# Altium schematic symbol library kontr.SCHLIB: 247 symbols
Pins are listed as number, name and electrical type; pins without a type are passive.

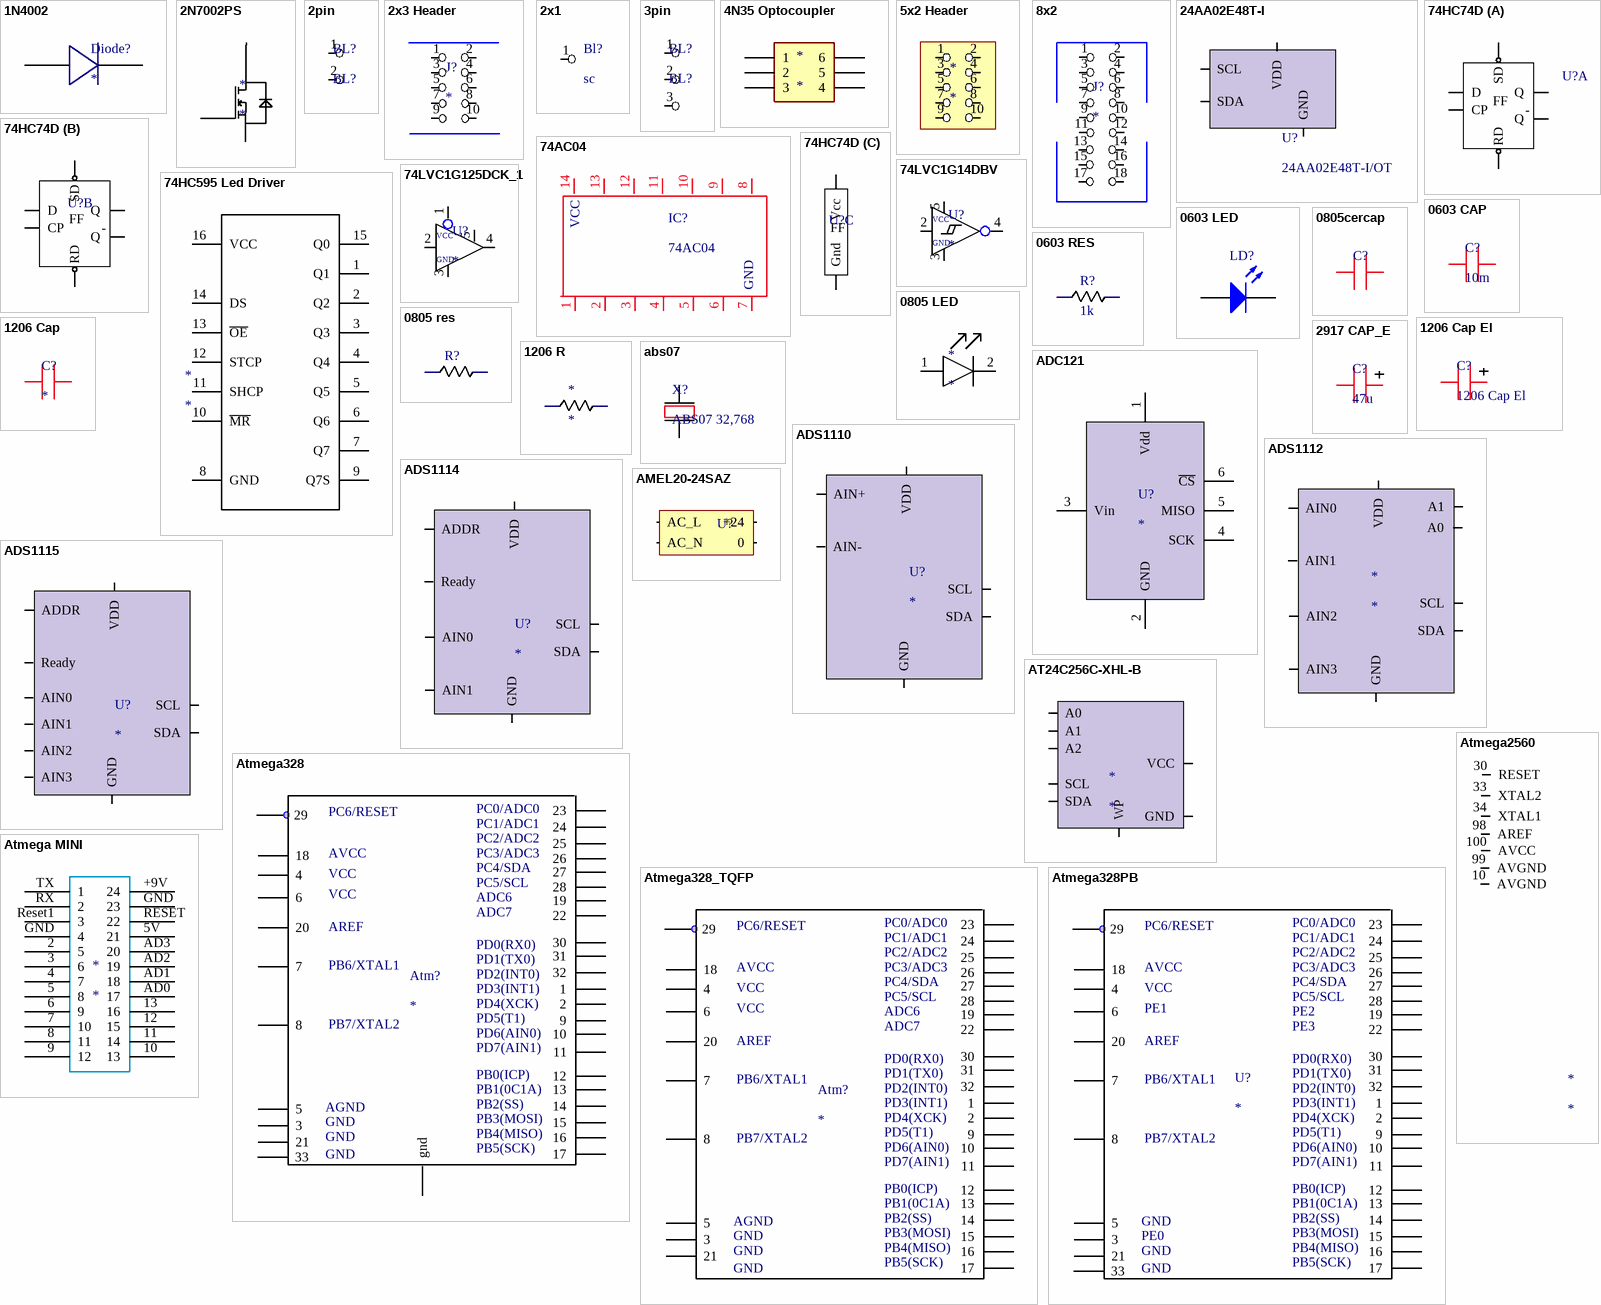
[diagram p0: symbols 1N4002 to Atmega MINI]

## 1N4002
designator Diode?
footprint 1N4002
footprint 0603 - duplicate
pins: 1, 2

## 2N7002PS
designator *
pins: D, G, S

## 2pin
designator BL?, comment BL?
footprint 2pin
pins: 1, 2

## 2x3 Header
designator J?
footprint 5x2
pins: 1, 2, 3, 4, 5, 6, 7, 8, 9, 10

## 2х1
designator Bl?, comment sc
footprint 2x1
pins: 1

## 3pin
designator BL?, comment BL?
footprint 3pin127
pins: 1, 2, 3

## 4N35 Optocoupler
designator *
footprint 4n35 Optocoupler
pins: 1, 2, 3, 4, 5, 6

## 5x2 Header
designator *
footprint 5x2
pins: 1, 2, 3, 4, 5, 6, 7 1, 8 2, 9 3, 10 4

## 8x2
designator J?
8x2
footprint 8x2
pins: 1, 2, 3, 4, 5, 6, 7 1, 8 2, 9 3, 10 4, 11 5, 12 6, 13 3, 14 4, 15 5, 16 6, 17 5, 18 6

## 24AA02E48T-I
designator U?, comment 24AA02E48T-I/OT
footprint SOT23 - 5 lead
pins: 1 SCL, 2 GND, 3 SDA, 4 VDD

## 74AC04
designator IC?
footprint DIP 14
pins: 1, 2, 3, 4 1, 5 2, 6 3, 7 2, 8 1, 9 1, 10 2, 11 3, 12 1, 13 2, 14 3
text: VCC; GND

## 74HC74D
designator U?  (value not drawn)
footprint SOIC 14 lead
part A pins: 1 RD, 2 D, 3 CP, 4 SD, 5 Q, 6 Q
part B pins: 8 Q, 9 Q, 10 SD, 11 CP, 12 D, 13 RD
part C pins: 7 Gnd, 14 Vcc
part A text: FF; -
part B text: FF; -
part C text: FF

## 74HC595 Led Driver
designator *
footprint 74HC595 Led Driver
pins: 1 Q1, 2 Q2, 3 Q3, 4 Q4, 5 Q5, 6 Q6, 7 Q7, 8 GND, 9 Q7S, 10 ~{MR}, 11 SHCP, 12 STCP, 13 ~{OE}, 14 DS, 15 Q0, 16 VCC

## 74LVC1G14DBV
designator U?
footprint 74LVC1G125DCK
pins: 2 7, 3 7, 4 7, 5 7
text: VCC; GND

## 74LVC1G125DCK_1
designator U?
footprint 74LVC1G125DCK
pins: 1 7, 2 7, 3 7, 4 7, 5 7
text: VCC; GND

## 0603 CAP
designator C?, comment 10m
footprint 0603
pins: 1, 2

## 0603 LED
designator LD?  (value not drawn)
Typical INFRARED GaAs LED; Published: 8-Jun-2000; LatestRevisionDate: 08-Jul-2005; LatestRevisionNote: Mech Layer 1 removed.; PackageReference: LED-0; Publisher: Altium Limited; PackageDescription: LED; 2 Leads
footprint 0603
pins: 1 A, 2 K

## 0603 RES
designator R?, comment 1k
footprint 0603
pins: 1, 2

## 0805 LED
designator *
footprint RES0805 (Chip Resistor, 2-Leads, Body 2,00x1,25mm, IPC Medium Density)
pins: 1, 2

## 0805 res
designator R?, comment Res0804  (value not drawn)
0805 SMD Resistor
footprint RES0805 (Chip Resistor, 2-Leads, Body 2,00x1,25mm, IPC Medium Density)
pins: 1, 2

## 0805cercap
designator C?  (value not drawn)
footprint capasitor 0805
pins: 1, 2

## 1206 Cap
designator C?
footprint 1206
pins: 1, 2

## 1206 Cap El
designator C?
TAJA156K010RNJ
footprint CAP_D_Code
pins: 0, 1

## 1206 R
designator *
footprint 1206
pins: 1, 2

## 2917 CAP_E
designator C?, comment 47u
footprint CAP_E_Code
footprint cap-C-code
pins: 0, 1

## abs07
designator X?, comment ABS07 32,768
XTAL 32,768
footprint ABS07
pins: 1, 2

## ADC121
designator U?
ADC121S021
pins: 1 Vdd, 2 GND, 3 Vin, 4 SCK, 5 MISO, 6 ~{CS}

## ADS1110
designator U?
ADS1110
footprint SOT23 - 6
pins: 1 AIN+, 2 GND, 3 SCL, 4 SDA, 5 VDD, 6 AIN-

## ADS1112
designator *
footprint MSOP-10
pins: 1 AIN0, 2 AIN1, 3 GND, 4 AIN2, 5 AIN3, 6 VDD, 7 SDA, 8 SCL, 9 A0, 10 A1

## ADS1114
designator U?
ADS1114BQDGSRQ1
footprint VSSOP-10
pins: 1 ADDR, 2 Ready, 3 GND, 4 AIN0, 5 AIN1, 8 VDD, 9 SDA, 10 SCL

## ADS1115
designator U?
ADS1115IDGSR
footprint VSSOP-10
pins: 1 ADDR, 2 Ready, 3 GND, 4 AIN0, 5 AIN1, 6 AIN2, 7 AIN3, 8 VDD, 9 SDA, 10 SCL

## AMEL20-24SAZ
designator U?  (value not drawn)
footprint AMEL20-24SAZ
pins: 1 AC_L, 2 AC_N, 3 +24, 4 0

## AT24C256C-XHL-B
designator *
footprint TSSOP-8 (Shrink Small Outline, Plastic, Thin; 14 Leads; Body Width 4.4 mm; Pitch 0.65 mm)
pins: 1 A0, 2 A1, 3 A2, 4 GND, 5 SDA, 6 SCL, 7 WP, 8 VCC

## Atmega328
designator Atm?
footprint Atmega168
pins: 1, 2, 3, 4, 5, 6, 7, 8, 9, 10, 11, 12, 13, 14, 15, 16, 17, 18, 19, 20, 21, 22, 23, 24, 25, 26, 27, 28, 29, 30, 31, 32, 33, 33 gnd
text: PC6/RESET; PC0/ADC0; PC1/ADC1; PC2/ADC2; AVCC; PC3/ADC3; VCC; PC4/SDA; PC5/SCL; ADC6; ADC7; AREF; PD0(RX0); PD1(TX0); PB6/XTAL1; PD2(INT0); PD3(INT1); PD4(XCK); PD5(T1); PB7/XTAL2; PD6(AIN0); PD7(AIN1); PB0(ICP); PB1(0C1A); PB2(SS); AGND; PB3(MOSI); GND; PB4(MISO); PB5(SCK)

## Atmega328_TQFP
designator Atm?
footprint TQFP
pins: 1, 2, 3, 4, 5, 6, 7, 8, 9, 10, 11, 12, 13, 14, 15, 16, 17, 18, 19, 20, 21, 22, 23, 24, 25, 26, 27, 28, 29, 30, 31, 32
text: PC6/RESET; PC0/ADC0; PC1/ADC1; PC2/ADC2; AVCC; PC3/ADC3; VCC; PC4/SDA; PC5/SCL; ADC6; ADC7; AREF; PD0(RX0); PD1(TX0); PB6/XTAL1; PD2(INT0); PD3(INT1); PD4(XCK); PD5(T1); PB7/XTAL2; PD6(AIN0); PD7(AIN1); PB0(ICP); PB1(0C1A); PB2(SS); AGND; PB3(MOSI); GND; PB4(MISO); PB5(SCK)

## Atmega328PB
designator U?
ATMEGA328PB-MU
footprint QFN32
pins: 1, 2, 3, 4, 5, 6, 7, 8, 9, 10, 11, 12, 13, 14, 15, 16, 17, 18, 19, 20, 21, 22, 23, 24, 25, 26, 27, 28, 29, 30, 31, 32, 33
text: PC0/ADC0; PC6/RESET; PC1/ADC1; PC2/ADC2; AVCC; PC3/ADC3; PC4/SDA; VCC; PC5/SCL; PE1; PE2; PE3; AREF; PD0(RX0); PD1(TX0); PB6/XTAL1; PD2(INT0); PD3(INT1); PD4(XCK); PD5(T1); PB7/XTAL2; PD6(AIN0); PD7(AIN1); PB0(ICP); PB1(0C1A); GND; PB2(SS); PE0; PB3(MOSI); PB4(MISO); PB5(SCK)

## Atmega2560
designator *
pins: 10 AVGND, 30 RESET, 33 XTAL2, 34 XTAL1, 98 AREF, 99 AVGND, 100 AVCC

## Atmega MINI
designator *
footprint Atmega MINI
pins: 2 5, 3 6, 4 7, 5 8, 5V 21, 6 9, 7 10, 8 11, 9 12, 10 13, 11 14, 12 15, 13 16, +9V 24, AD0 17, AD1 18, AD2 19, AD3 20, GND 4, GND 23, RESET 22, Reset1 3, RX 2, TX 1

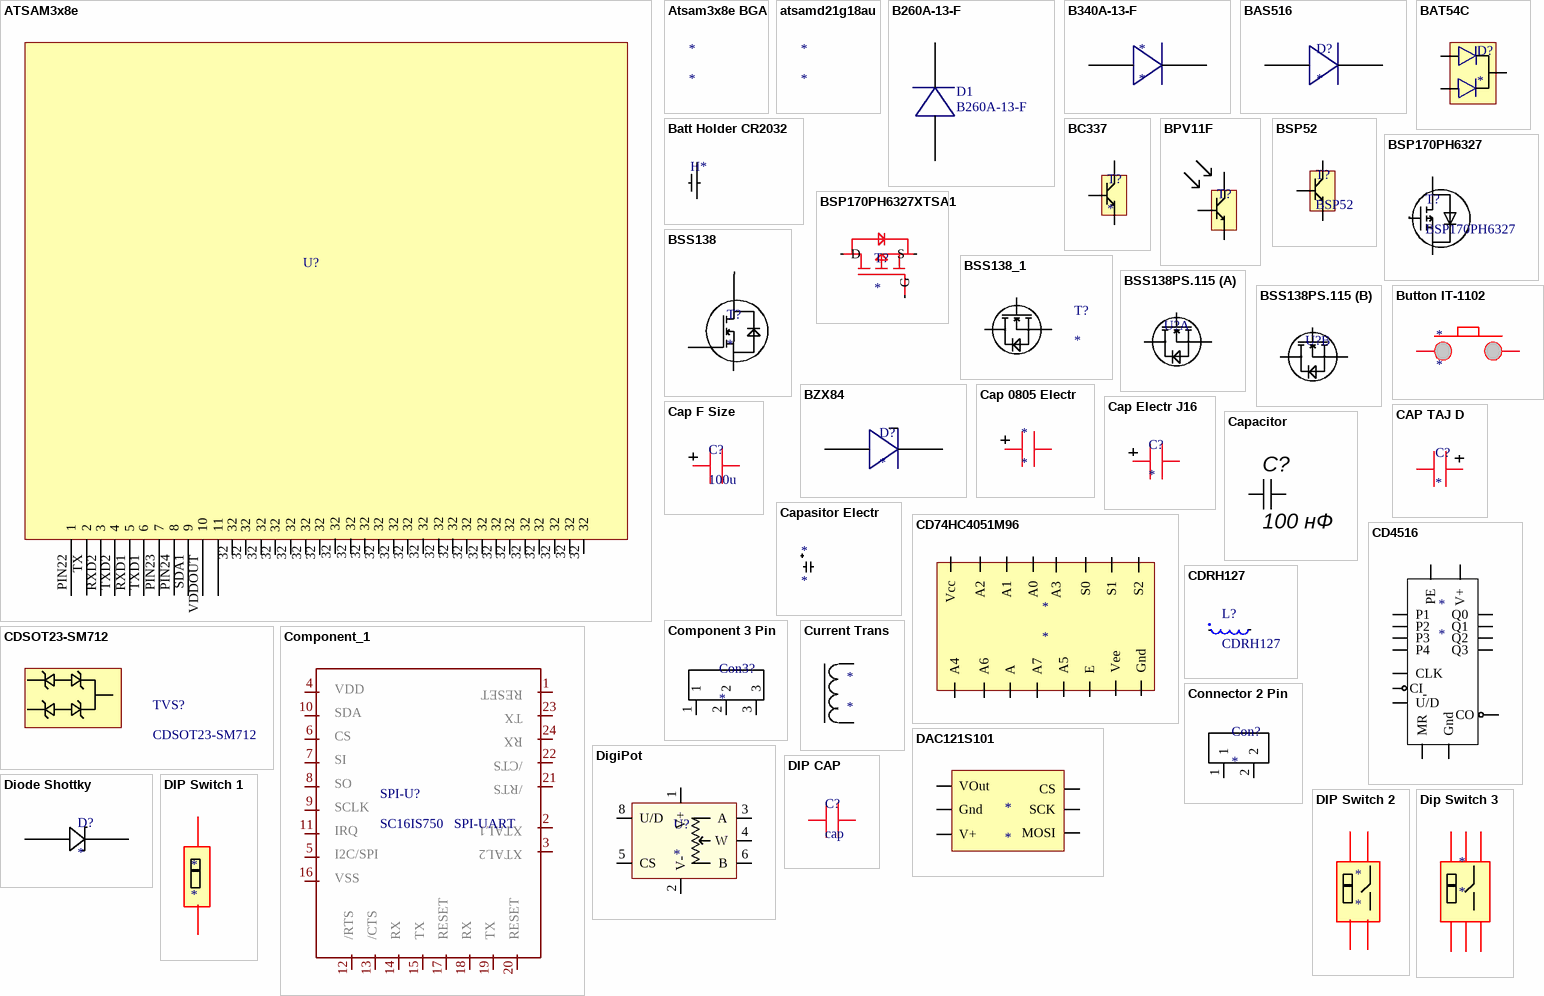
[diagram p1: symbols ATSAM3x8e to Dip Switch 3]

## ATSAM3x8e
designator U?  (value not drawn)
footprint LQFP 144
pins: 32 11, 32, 32, 32, 32, 32, 32, 32, 32, 32, 32, 32, 32, 32, 32, 32, 32, 32, 32, 32, 32, 32, 32, 32, 32, 32, PIN22 1, PIN23 7, PIN24 8, RXD1 5, RXD2 3, SDA1 9, TX 2, TXD1 6, TXD2 4, VDDOUT 10

## Atsam3x8e BGA
designator *

## atsamd21g18au
designator *

## B260A-13-F
designator D1
footprint DO-214Pol
pins: 1, 2

## B340A-13-F
designator *
footprint B340A-13-F
pins: 1 A, 2 C

## BAS516
designator D?
footprint SOD523
pins: 1, 2

## BAT54C
designator D?
footprint SOT23
pins: 1, 2, 3 2

## Batt Holder CR2032
designator H*  (value not drawn)
footprint Batt Holder CR2032
pins: 0 5, 1 6

## BC337
designator T?
footprint TO226
pins: 1, 2, 3

## BPV11F
designator T?  (value not drawn)
footprint TransistorPh
pins: 1, 2, 3

## BSP52
designator T?
footprint SOT223
pins: 1, 2, 3

## BSP170PH6327
designator T?
footprint SOT223
pins: 1, 2, 3

## BSP170PH6327XTSA1
designator T?
footprint MOSFET SOT223
pins: 1 G, 2 D, 3 S

## BSS138
designator T?
BSS138W
footprint SOT23
pins: 1 G, 2 S, 3 D

## BSS138_1
designator T?
BSS138W
footprint SOT23
pins: 1 G, 2 S, 3 D

## BSS138PS.115
designator U?  (value not drawn)
footprint TSSOP 6
part A pins: 1 S1, 2 G1, 6 D1
part B pins: 3 D2, 4 S2, 5 G2

## Button IT-1102
designator *
footprint Button IT-1102W
pins: 0, 1

## BZX84
designator D?
BZX84
footprint Sot23-3
pins: 1, 3

## Cap 0805 Electr
designator *
footprint capasitor 0805
pins: 1, 2

## Cap Electr J16
designator C?
EEEFK1J471AM
footprint Cap J16
pins: 1, 2

## Cap F Size
designator C?, comment 100u
EEEFK1H101P
footprint Cap F size
pins: 1, 2

## CAP TAJ D
designator C?
footprint AVX_D
pins: 1, 2

## Capacitor
designator C?, comment 100 нФ
100n; Type: Конденсатор ЧИП; Name: 0805; Power/Voltage: 50В; Tolerance: 10%; Value: 100 нФ
footprint C_0805
pins: 1, 2

## Capasitor Electr
designator *
footprint Cap 8x10
pins: 1, 2

## CD74HC4051M96
designator *
footprint SOIC 16
pins: 1 A4, 2 A6, 3 A, 4 A7, 5 A5, 6 E, 7 Vee, 8 Gnd, 9 S2, 10 S1, 11 S0, 12 A3, 13 A0, 14 A1, 15 A2, 16 Vcc

## CD4516
designator *
footprint TSSOP-16 (Shrink Small Outline, Plastic, Thin; 14 Leads; Body Width 4.4 mm; Pitch 0.65 mm)
pins: 1 PE, 2 Q3, 3 P4, 4 P1, 4 Q2, 5 CI, 6 Q0, 7 CO, 8 Gnd, 9 MR, 10 U/D, 11 Q1, 12 P2, 13 P3, 15 CLK, 16 V+
text: -

## CDRH127
designator L?
footprint CDRH127/LDNP-270MC,
pins: 1, 2

## CDSOT23-SM712
designator TVS?
footprint SOT23
pins: 1, 2, 3

## Component 3 Pin
designator Con3?
footprint Connector 3 Pin
pins: 1, 2, 3

## Component_1
designator SPI-U?, comment SC16IS750   SPI-UART
footprint SC16IS750   SPI-UART
pins: 1, 2, 3, 4, 5 4, 6 4, 7 4, 8 4, 9 4, 10 4, 11 4, 12 4, 13 23, 14 4, 15 23, 16 4, 17 1, 18 4, 19 23, 20 1, 21 4, 22 23, 23, 24 4
text: RESET; VDD; TX; SDA; RX; CS; /CTS; SI; /RTS; SO; SCLK; XTAL1; IRQ; XTAL2; I2C/SPI; VSS

## Connector 2 Pin
designator Con?
footprint Connector 2Pin
pins: 1, 2

## Current Trans
designator *
pins: 1, 2

## DAC121S101
designator *
footprint SOT23 - 6
pins: 1 VOut, 2 Gnd, 3 V+, 4 MOSI, 5 SCK, 6 CS

## DigiPot
designator U?
MCP4011-103E/MS
footprint MSOP-8
pins: 1 V+, 2 V-, 3 A, 4 W, 5 CS (io), 6 B, 8 U/D (io)

## Diode Shottky
designator D?
pins: 1, 2

## DIP CAP
designator C?, comment cap
footprint DIP Cap 4mm
pins: 1, 2

## DIP Switch 1
designator *
footprint Dip Switch 1
pins: 1, 2 11

## DIP Switch 2
designator *
footprint Dip Switch 2
pins: 1, 2 3, 3 9, 4 11

## Dip Switch 3
designator *
footprint Dip Switch 3
pins: 1, 2 3, 3 5, 14 7, 15 9, 16 11

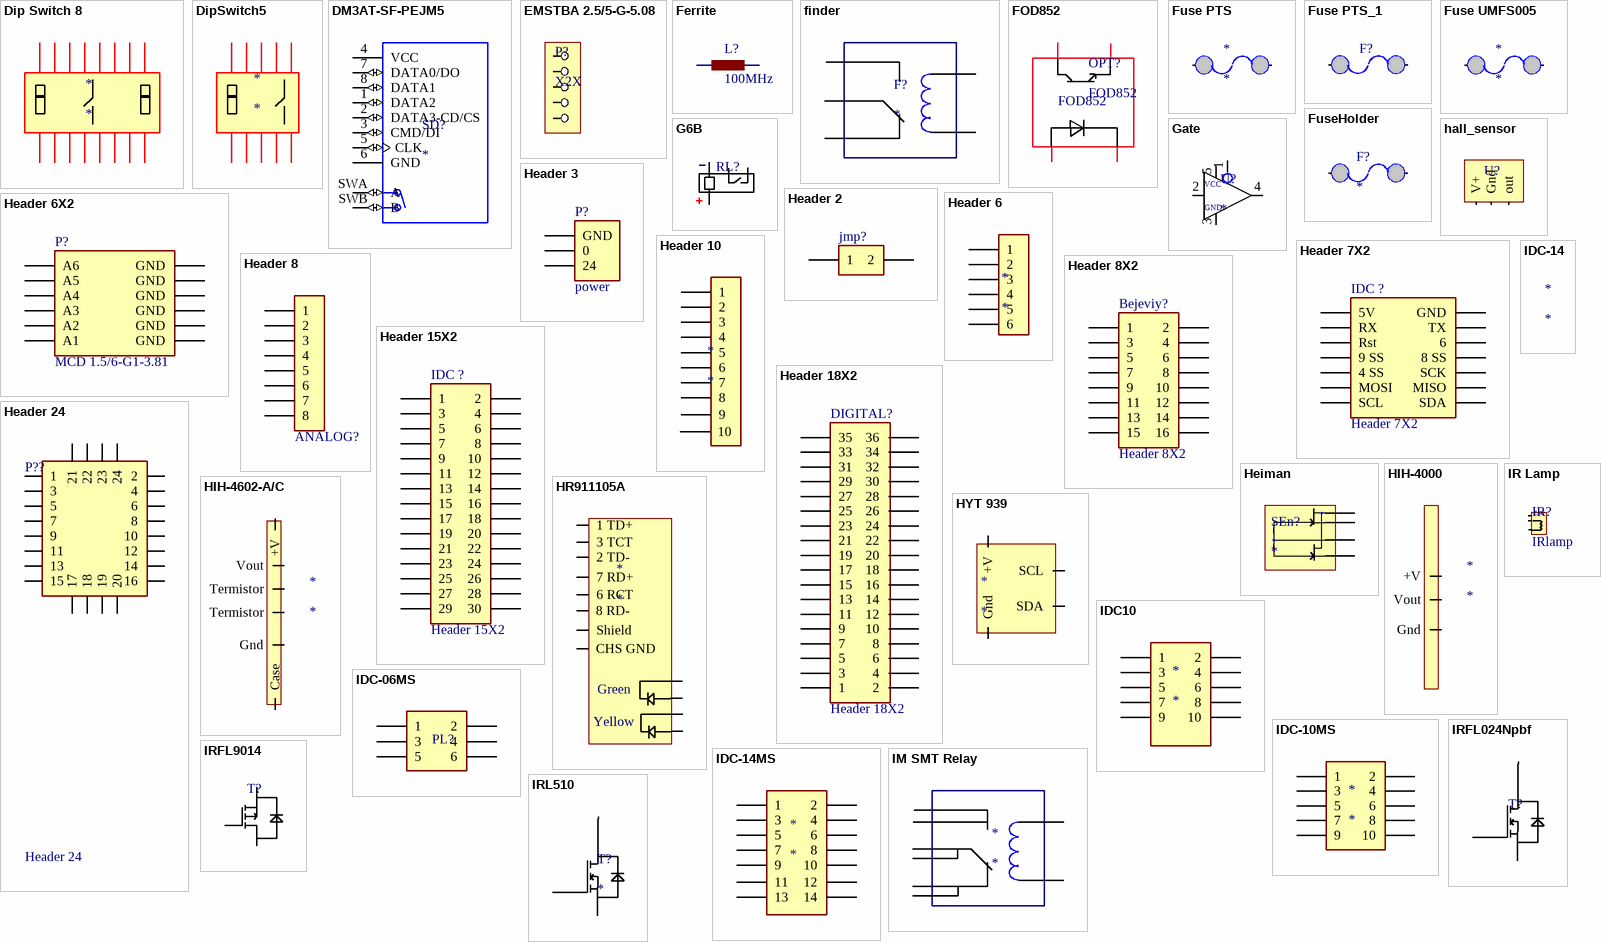
[diagram p2: symbols Dip Switch 8 to IRL510]

## Dip Switch 8
designator *
footprint Dip Switch 8
pins: 1, 2 3, 3 5, 4 7, 5 9, 6 11, 7 13, 8 15, 9, 10 14, 11 12, 12 10, 13 8, 14 6, 15 4, 16 2

## DipSwitch5
designator *
footprint DipSwitch 5
pins: 1, 2 3, 3 5, 4 7, 5 9, 12 10, 13 8, 14 6, 15 4, 16 2

## DM3AT-SF-PEJM5
designator SD?
footprint DM3AT-SF-PEJM5
pins: 1 DATA2 (io), 2 DATA3-CD/CS (io), 3 CMD/DI (io), 4 VCC (power), 5 CLK (io), 6 GND (power), 7 DATA0/DO (io), 8 DATA1 (io), SWA A (io), SWB B (io)

## EMSTBA 2.5/5-G-5.08
designator P?, comment X2X
X2X Plug
footprint PhClass5
pins: 1, 2, 3, 4 2, 5 3

## Ferrite
designator L?, comment 100MHz
footprint 0805
pins: 1, 2

## finder
designator F?
footprint 413190240010 (Finder)
pins: 11, 12, 14 1, A1, A2

## FOD852
designator OPT?
OptoDarlington
footprint FOD852S
pins: 1 -, 2 +, 3 Out B, 4 Out A

## Fuse PTS
designator *
pins: 1, 2

## Fuse PTS_1
designator F?, comment MF-NSMF012-2  (value not drawn)
footprint 1206
pins: 1, 2

## Fuse UMFS005
designator *
footprint Fuse USMF005
pins: 0, 1

## FuseHolder
designator F?
05200101Z
footprint FuseHolder
pins: 1, 2

## G6B
designator RL?  (value not drawn)
G6B-1114P-US-DC24
footprint G6B
pins: 1 -, 3 1, 4 1, 6 1

## Gate
designator U?
footprint 74LVC1G125DCK
pins: 1 7, 2 7, 3 7, 4 7, 5 7
text: VCC; GND

## hall_sensor
designator U?
hall_sensor
footprint PG-SSO-3-2
pins: 1 V+, 2 Gnd, 3 out

## Header 2
designator jmp?  (value not drawn)
Header, 2-Pin; LatestRevisionDate: 17-Jul-2002; LatestRevisionNote: Re-released for DXP Platform.; Publisher: Altium Limited
footprint HDR1X2 (Connector; Header; 2 Position)
signal-integrity model Connector
pins: 1, 2

## Header 3
designator P?, comment power
Header, 3-Pin; LatestRevisionDate: 17-Jul-2002; LatestRevisionNote: Re-released for DXP Platform.; Publisher: Altium Limited
footprint power
pins: 1 GND, 2 0, 3 24

## Header 6
designator *
footprint Header 6x1
pins: 1, 2, 3, 4, 5, 6

## Header 6X2
designator P?, comment MCD 1.5/6-G1-3.81
Header, 6-Pin, Dual row; LatestRevisionDate: 17-Jul-2002; LatestRevisionNote: Re-released for DXP Platform.; Publisher: Altium Limited
footprint mcd 1,5/6-G1-3.81
pins: 1 A6, 2 GND, 3 A5, 4 GND, 5 A4, 6 GND, 7 A3, 8 GND, 9 A2, 10 GND, 11 A1, 12 GND

## Header 7X2
designator IDC ?
Header, 7-Pin, Dual row; LatestRevisionDate: 17-Jul-2002; LatestRevisionNote: Re-released for DXP Platform.; Publisher: Altium Limited
footprint idc 14
pins: 1 5V, 2 GND, 3 RX, 4 TX, 5 Rst, 6, 7 9 SS, 8 8 SS, 9 4 SS, 10 SCK, 11 MOSI, 12 MISO, 13 SCL, 14 SDA

## Header 8
designator ANALOG?  (value not drawn)
Header, 8-Pin; LatestRevisionDate: 17-Jul-2002; LatestRevisionNote: Re-released for DXP Platform.; Publisher: Altium Limited
footprint ds1021
pins: 1, 2, 3, 4, 5, 6, 7, 8

## Header 8X2
designator Bejeviy?
Header, 8-Pin, Dual row; LatestRevisionDate: 17-Jul-2002; LatestRevisionNote: Re-released for DXP Platform.; Publisher: Altium Limited
footprint Bejev 2.54
pins: 1, 2, 3, 4, 5, 6, 7, 8, 9, 10, 11, 12, 13, 14, 15, 16

## Header 10
designator *
footprint Header 10
pins: 1, 2, 3, 4, 5, 6, 7, 8, 9, 10

## Header 15X2
designator IDC ?
Header, 15-Pin, Dual row; LatestRevisionDate: 17-Jul-2002; LatestRevisionNote: Re-released for DXP Platform.; Publisher: Altium Limited
footprint idc 30
pins: 1, 2, 3, 4, 5, 6, 7, 8, 9, 10, 11, 12, 13, 14, 15, 16, 17, 18, 19, 20, 21, 22, 23, 24, 25, 26, 27, 28, 29, 30

## Header 18X2
designator DIGITAL?
Header, 18-Pin, Dual row; LatestRevisionDate: 17-Jul-2002; LatestRevisionNote: Re-released for DXP Platform.; Publisher: Altium Limited
footprint ds1021 36pad
pins: 1, 2, 3, 4, 5, 6, 7, 8, 9, 10, 11, 12, 13, 14, 15, 16, 17, 18, 19, 20, 21, 22, 23, 24, 25, 26, 27, 28, 29, 30, 31, 32, 33, 34, 35, 36

## Header 24
designator P??
Header, 24-Pin; LatestRevisionDate: 17-Jul-2002; LatestRevisionNote: Re-released for DXP Platform.; Publisher: Altium Limited
footprint 3x8
pins: 1, 2, 3, 4, 5, 6, 7, 8, 9, 10, 11, 12, 13, 14, 15, 16, 17, 18, 19, 20, 21, 22, 23, 24

## Heiman
designator SEn?
footprint Heiman
pins: 1, 2, 3, 4

## HIH-4000
designator *
footprint TO18
pins: 1 Gnd, 2 Vout, 3 +V

## HIH-4602-A/C
designator *
footprint HIH-4602-A/C
pins: 1 Case, 2 Vout, 3 Gnd, 4 +V, 5 Termistor, 6 Termistor

## HR911105A
designator *
footprint HR911105A
pins: 1 1 TD+, 2 2 TD-, 3 3 TCT, 6 6 RCT, 7 7 RD+, 8 8 RD-, 9 LDGr, 10 LDGr, 11 LDYE, 12 LDYE, SHIELD CHS GND, SHIELD Shield
text: Green; Yellow

## HYT 939
designator *
footprint TO39
pins: 1 SCL, 2 +V, 3 Gnd, 4 SDA

## IDC10
designator *
footprint IDC10
pins: 1, 2, 3, 4, 5, 6, 7, 8, 9, 10

## IDC-06MS
designator PL?  (value not drawn)
footprint IDC-06MS
pins: 1, 2, 3, 4, 5, 6

## IDC-10MS
designator *
footprint IDC-10MS
pins: 1, 2, 3, 4, 5, 6, 7, 8, 9, 10

## IDC-14
designator *

## IDC-14MS
designator *
footprint IDC-14 PCB
pins: 1, 2, 3, 4, 5, 6, 7, 8, 9, 10, 11, 12, 13, 14

## IM SMT Relay
designator *
footprint IM SMT Relay
pins: 1, 2, 3, 4, 5, 6, 7, 8

## IR Lamp
designator IR?, comment IRlamp
footprint TO-8-3
pins: 1, 2, 3
text: Encl

## IRFL024Npbf
designator T?  (value not drawn)
footprint SOT223
pins: 1 G, 2 D, 3 S

## IRFL9014
designator T?  (value not drawn)
footprint SOT223
pins: 1 G, 2 D, 3 S

## IRL510
designator T?
footprint TO220
pins: 1 G, 2 D, 3 S

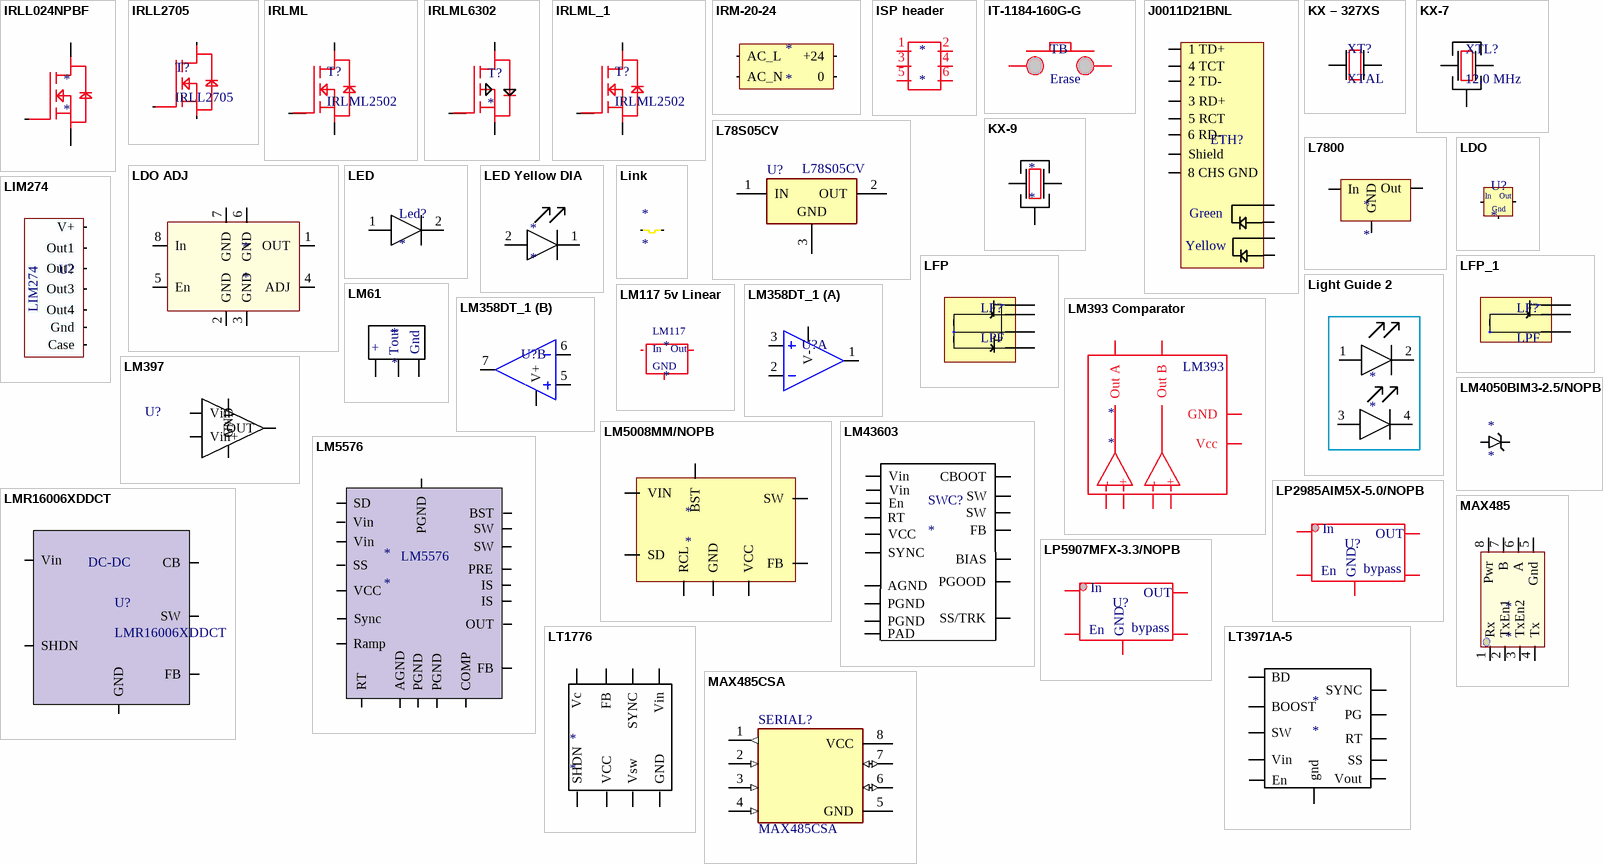
[diagram p3: symbols IRLL024NPBF to MAX485CSA]

## IRLL024NPBF
designator *
footprint SOT223
pins: 1, 2, 3

## IRLL2705
designator T?
footprint SOT223
pins: 1 G, 2 D, 3 S

## IRLML
designator T?, comment IRLML2502
footprint SOT23
pins: 1, 2, 3

## IRLML6302
designator T?
IRLML6302
footprint SOT23
pins: 1, 2, 3

## IRLML_1
designator T?, comment IRLML2502
footprint SOT23
pins: 1, 2, 3

## IRM-20-24
designator *
footprint IRM20-24
pins: 0VGnd 0, +V24 +24, AC_L, AC_N

## ISP header
designator *
footprint ISP Header
pins: 1, 2 6, 3, 4, 5, 6

## IT-1184-160G-G
designator TB, comment Erase
IT-1184-160G-G
footprint IT-1184-160G-g
pins: 1, 2

## J0011D21BNL
designator ETH?, comment ETH?  (value not drawn)
footprint RJ45
pins: 1 1 TD+, 2 2 TD-, 3 3 RD+, 4 4 TCT, 5 5 RCT, 6 6 RD-, 8 8 CHS GND, 9 LDGr, 10 LDGr, 11 LDYE, 12 LDYE, SHIELD Shield
text: Green; Yellow

## KX – 327XS
designator XT?, comment XTAL
KX – 327XS
footprint KX – 327
pins: 1 5, 2 5

## KX-7
designator XTL?, comment 12.0 MHz
Geyer KX-7 12.0 MHz
footprint KX-7 XTAL
pins: 1 5, 2, 3 5

## KX-9
designator *
footprint KX-9
pins: 1 5, 3 5, g 5

## L78S05CV
designator U?
2A Positive Voltage Regulator; Note: Tab is connected to pin 3 (GND).; Published: 24-Aug-2001; LatestRevisionDate: 17-Jul-2002; LatestRevisionNote: Re-released for DXP Platform.; DatasheetVersion: Jan-1993; PackageVersion: Apr-1998; PackageReference: TO220VW; Publisher: Altium Limited; PackageDescription: TO, Thru-Hole, Vertical, Heatsink Mounted; 3 In-Line Leads; Pitch 2.54 mm; Pin sequence 1, 3, 2; ComponentLink1Description: Manufacturer Link; ComponentLink1URL: http://www.st.com/; ComponentLink2Description: Datasheet; ComponentLink2URL: http://www.st.com/stonline/products/literature/ds/2148/l78s10c.pdf
footprint TO220V (TO, Thru-Hole, Vertical, Heatsink Mounted; 3 In-Line Leads; Pitch 2.54 mm; Pin sequence 1, 3, 2)
pins: 1 IN (power), 2 OUT (power), 3 GND (power)

## L7800
designator *
footprint D2Pack
pins: 0 GND, 1 In, 2 Out

## LDO
designator U?
footprint SOT223
pins: 1 GND, 2 OUT, 3 IN
text: In; Out; Gnd

## LDO ADJ
designator *
footprint SOIC 8
pins: 1 OUT, 2 GND, 3 GND, 4 ADJ, 5 En, 6 GND, 7 GND, 8 In

## LED
designator Led?
footprint LED
pins: 1, 2

## LED Yellow DIA
designator *
footprint Led Yellow DIA
pins: 1, 2

## LFP
designator LF?, comment LPF
LFP-42
footprint TO-8-4
pins: 1, 2, 3, 4

## LFP_1
designator LF?, comment LPF
RD625
footprint RD625
pins: 1, 2, 3

## Light Guide 2
designator *
515-1094F
footprint LED SMD DayLight
pins: 1, 2, 3, 4

## LIM274
designator U?  (value not drawn)
Pyro
footprint LIM274
pins: Case, Gnd, Out1, Out2, Out3, Out4, V+

## Link
designator *
footprint Link
pins: 0 6, 1 7

## LM61
designator *
footprint SOT23
pins: 1, 2, 3
text: +; Tout; Gnd

## LM117 5v Linear
designator *
footprint LM117 5V Linear
pins: 1 8, 2 7, 3 9
text: LM117; In; Out; GND

## LM358DT_1
designator U?, comment LM358DT  (value not drawn)
footprint SOIC 8
part A pins: 1 OUT, 2 -IN, 3 +IN, 4 V-
part B pins: 5 +IN, 6 -IN, 7 OUT, 11 V+

## LM393 Comparator
designator *
footprint LM393 comparator
pins: 1 Out A, 2 -, 3 +, 4 GND, 5 +, 6 -, 7 Out B, 8 Vcc
text: LM393

## LM397
designator U?, comment COMP  (value not drawn)
footprint SOT23 - 5 lead
pins: 1 Vin-, 2 GND, 3 Vin+, 4 OUT, 5 V+ (oc)

## LM4050BIM3-2.5/NOPB
designator *
footprint SOT23
pins: 1, 2

## LM5008MM/NOPB
designator *
footprint VSSOP-8
pins: 1 SW, 2 BST, 3 RCL, 4 GND, 5 FB, 6 SD, 7 VCC, 8 VIN

## LM5576
designator *
footprint LM5576
pins: 1 VCC, 2 SD, 3 Vin, 4 Vin, 5 Sync, 6 COMP, 7 FB, 8 RT, 9 Ramp, 10 AGND, 11 SS, 12 OUT, 13 PGND, 14 PGND, 15 IS, 16 IS, 17 SW, 18 SW, 19 PRE, 20 BST, GND PGND

## LM43603
designator SWC?
footprint LM43603
pins: 1 SW, 2 SW, 3 CBOOT, 4 VCC, 5 BIAS, 6 SYNC, 7 RT, 8 PGOOD, 9 FB, 10 AGND, 11 SS/TRK, 12 En, 13 Vin, 14 Vin, 15 PGND, 16 PGND, 17 PAD

## LMR16006XDDCT
designator U?
footprint SOT23 - 6
pins: 1 CB, 2 GND, 3 FB, 4 SHDN, 5 Vin, 6 SW
text: DC-DC

## LP2985AIM5X-5.0/NOPB
designator U?
footprint SOT23 - 5 lead
pins: 1, 2, 3, 4 6, 5
text: In; OUT; GND; bypass; En

## LP5907MFX-3.3/NOPB
designator U?
footprint SOT23 - 5 lead
pins: 1, 2, 3, 4 6, 5
text: In; OUT; GND; bypass; En

## LT1776
designator *
footprint LT1776
pins: 1 SHDN, 2 VCC, 3 Vsw, 4 GND, 5 Vin, 6 SYNC, 7 FB, 8 Vc

## LT3971A-5
designator *
footprint LT3971A-5
pins: 1 BD, 2 BOOST, 3 SW, 4 Vin, 5 En, 6 Vout, 7 SS, 8 RT, 9 PG, 10 SYNC, gnd

## MAX485
designator *
footprint SOIC 8
pins: 1 Rx, 2 TxEn1, 3 TxEn2, 4 Tx, 5 Gnd, 6 A, 7 B, 8 Pwr

## MAX485CSA
designator SERIAL?
Low-Power, Slew-Rate-Limited RS-485/RS-422 Transceiver; Published: 16-Jan-2001; LatestRevisionDate: 13-Apr-2006; LatestRevisionNote: IPC-7351 Footprint Added.; DatasheetVersion: Feb-1996; PackageReference: NSO8; Publisher: Altium Limited; PackageDescription: 8-Pin Small Outline Integrated Circuit 1.27 mm Pitch; Code_JEDEC: MS-012-AA; Code_IPC: SOIC127P600-8; ComponentLink1Description: Manufacturer Link; ComponentLink1URL: http://www.maxim-ic.com/; ComponentLink2Description: Datasheet; ComponentLink2URL: http://pdfserv.maxim-ic.com/en/ds/MAX1487-MAX491.pdf
footprint MAX485 (SOIC, 8-Leads, Body 4,90x3,90mm, Pitch 1,27mm, IPC Medium Density)
pins: 1 RO (out), 2 ~{RE} (in), 3 DE (in), 4 DI (in), 5 GND (power), 6 A (io), 7 B (io), 8 VCC (power)

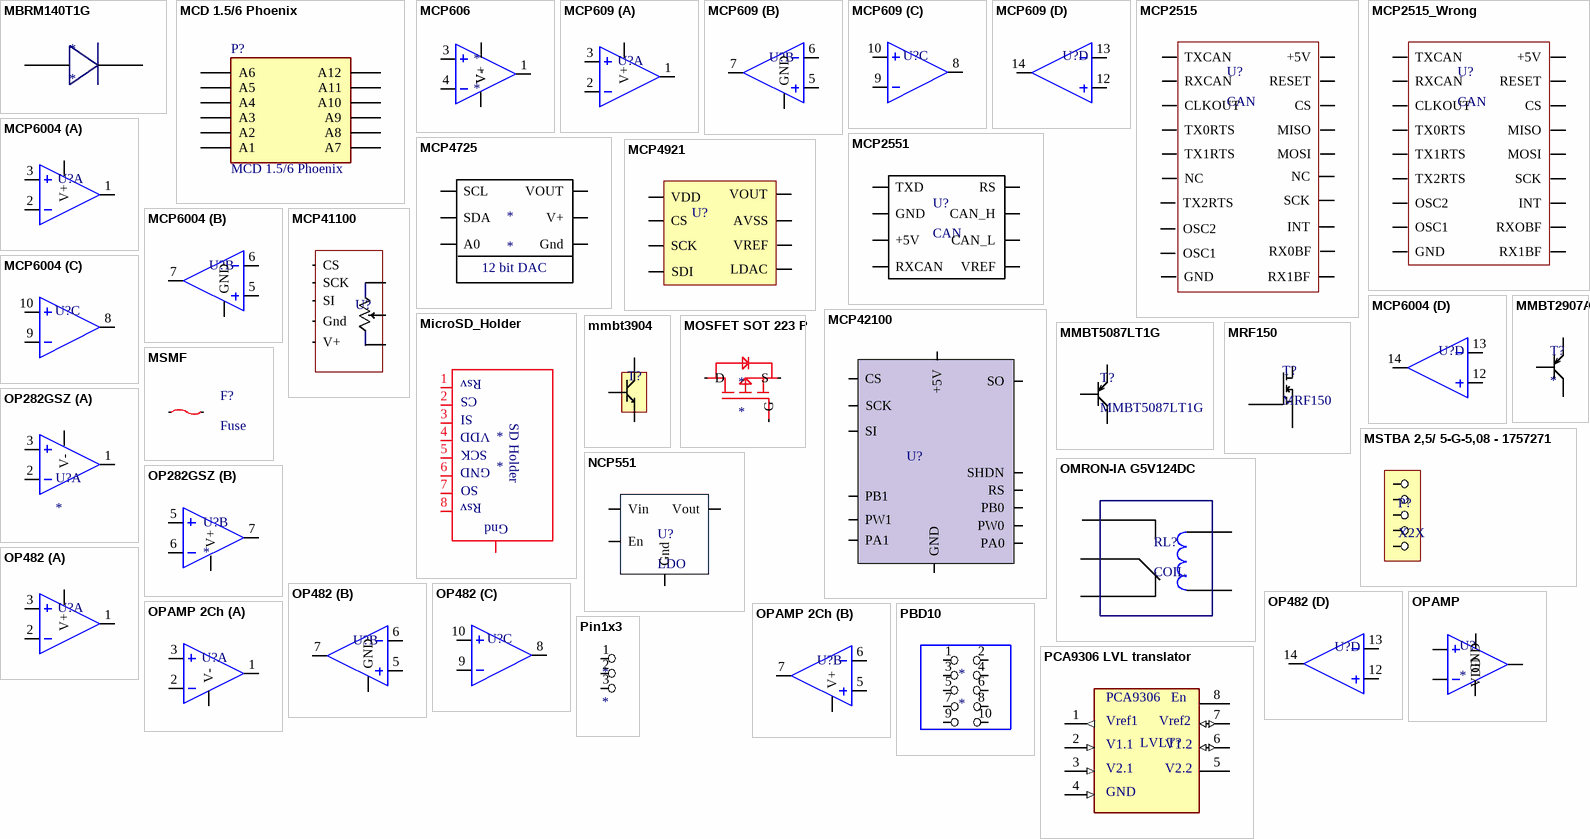
[diagram p4: symbols MBRM140T1G to Pin1x3]

## MBRM140T1G
designator *
footprint MBRM140T1G
pins: 1 2, 2 1

## MCD 1.5/6 Phoenix
designator P?
LatestRevisionDate: 17-Jul-2002; LatestRevisionNote: Re-released for DXP Platform.; Publisher: Altium Limited
footprint mcd 1,5/6-G1-3.81
pins: 1 A6, 2 A12, 3 A5, 4 A11, 5 A4, 6 A10, 7 A3, 8 A9, 9 A2, 10 A8, 11 A1, 12 A7

## MCP606
designator *
pins: 1 OUT, 2 V-, 3 +IN, 4 -IN, 5 V+

## MCP609
designator U?  (value not drawn)
footprint SOIC 14 lead
part A pins: 1 OUT, 2 -IN, 3 +IN, 4 V+
part B pins: 5 +IN, 6 -IN, 7 OUT, 11 GND
part C pins: 8 OUT, 9 -IN, 10 +IN
part D pins: 12 +IN, 13 -IN, 14 OUT

## MCP2515
designator U?, comment CAN
footprint MCP2515 (CAN Bus)
pins: 1 TXCAN, 2 RXCAN, 3 CLKOUT, 4 TX0RTS, 5 TX1RTS, 6 NC, 7 TX2RTS, 8 OSC2, 9 OSC1, 10 GND, 11 RX1BF, 12 RX0BF, 13 INT, 14 SCK, 15 NC, 16 MOSI, 17 MISO, 18 CS, 19 RESET, 20 +5V

## MCP2515_Wrong
designator U?, comment CAN
footprint MCP2515 (CAN Bus)
pins: 1 TXCAN, 2 RXCAN, 3 CLKOUT, 4 TX0RTS, 5 TX1RTS, 6 TX2RTS, 7 OSC2, 8 OSC1, 9 GND, 10 RX1BF, 11 RXOBF, 12 INT, 13 SCK, 14 MOSI, 15 MISO, 16 CS, 17 RESET, 18 +5V

## MCP2551
designator U?, comment CAN
footprint SOIC 8
pins: 1 TXD, 2 GND, 3 +5V, 4 RXCAN, 5 VREF, 6 CAN_L, 7 CAN_H, 8 RS

## MCP4725
designator *
footprint SOT23 - 6
pins: 1 VOUT, 2 Gnd, 3 V+, 4 SDA, 5 SCL, 6 A0
text: 12 bit DAC

## MCP4921
designator U?  (value not drawn)
MCP4921
footprint SOIC 8
pins: 1 VDD, 2 CS, 3 SCK, 4 SDI, 5 LDAC, 6 VREF, 7 AVSS, 8 VOUT

## MCP6004
designator U?  (value not drawn)
OPAMP
footprint TSSOP-14 (Shrink Small Outline, Plastic, Thin; 14 Leads; Body Width 4.4 mm; Pitch 0.65 mm)
part A pins: 1 OUT, 2 -IN, 3 +IN, 4 V+
part B pins: 5 +IN, 6 -IN, 7 OUT, 11 GND
part C pins: 8 OUT, 9 -IN, 10 +IN
part D pins: 12 +IN, 13 -IN, 14 OUT

## MCP41100
designator U?  (value not drawn)
footprint SOIC 8
pins: 1, 1 CS, 2, 2 SCK, 3 SI, 4 Gnd, 5, 6 4, 7 3, 8 V+

## MCP42100
designator U?  (value not drawn)
DigPot
footprint SOIC 14 lead
pins: 1 CS, 2 SCK, 3 SI, 4 GND, 5 PB1, 6 PW1, 7 PA1, 8 PA0, 9 PW0, 10 PB0, 11 RS, 12 SHDN, 13 SO, 14 +5V

## MicroSD_Holder
designator *
footprint MicroSD holder
pins: 1 5, 2, 3 5, 4 5, 5, 6 5, 7 5, 8 GND, 12 Gnd
text: Rsv; CS; SI; SD Holder; VDD; SCK; SO

## MMBT2907A
designator T?
footprint SOT23
pins: 1, 2, 3

## mmbt3904
designator T?  (value not drawn)
footprint SOT23
pins: 1, 2, 3

## MMBT5087LT1G
designator T?
footprint SOT23
pins: 1, 2, 3

## MOSFET SOT 223 P
designator *
footprint MOSFET SOT223
pins: 1 G, 2 D, 3 S

## MRF150
designator T?
footprint MRF150
pins: Drain, Gate, Source

## MSMF
designator F?, comment Fuse
footprint MSMF (PTC Fuse)
pins: 0, 1

## MSTBA 2,5/ 5-G-5,08 - 1757271
designator P?, comment X2X
Phoenix
footprint MSTBA 1757271
pins: 1, 2, 3, 4 2, 5 3

## NCP551
designator U?, comment LDO
footprint SOT23 - 5 lead
pins: 1 Vin, 2 Gnd, 3 En, 5 Vout

## OMRON-IA G5V124DC
designator RL?, comment COIL
footprint OMRON-IA G5V124DC
pins: 1, 2, 3, 4, 5

## OP282GSZ
designator U?
OP282
footprint SOIC 8
part A pins: 1 OUT, 2 -IN, 3 +IN, 4 V-
part B pins: 5 +IN, 6 -IN, 7 OUT, 8 V+

## OP482
designator U?  (value not drawn)
footprint SOIC 14 lead
part A pins: 1 OUT, 2 -IN, 3 +IN, 4 V+
part B pins: 5 +IN, 6 -IN, 7 OUT, 11 GND
part C pins: 8 OUT, 9 -IN, 10 +IN
part D pins: 12 +IN, 13 -IN, 14 OUT

## OPAMP
designator U?
footprint SOT235
pins: 1 OUT, 2 GND, 3 +IN, 4 -IN, 5 VDD

## OPAMP 2Ch
designator U?
footprint SOIC 8
part A pins: 1 OUT, 2 -IN, 3 +IN, 4 V-
part B pins: 5 +IN, 6 -IN, 7 OUT, 8 V+

## PBD10
designator *
footprint PBD-10
pins: 1, 2, 3, 4, 5, 6, 7, 8, 9, 10

## PCA9306 LVL translator
designator LVLT?  (value not drawn)
footprint PCA9306
pins: 1 RO (out), 2 ~{RE} (in), 3 DE (in), 4 DI (in), 5 GND (power), 6 A (io), 7 B (io), 8 VCC (power)
text: PCA9306; En; Vref1; Vref2; V1.1; V1.2; V2.1; V2.2

## Pin1x3
designator *
footprint Pin_3 1,27
pins: 1, 2, 3

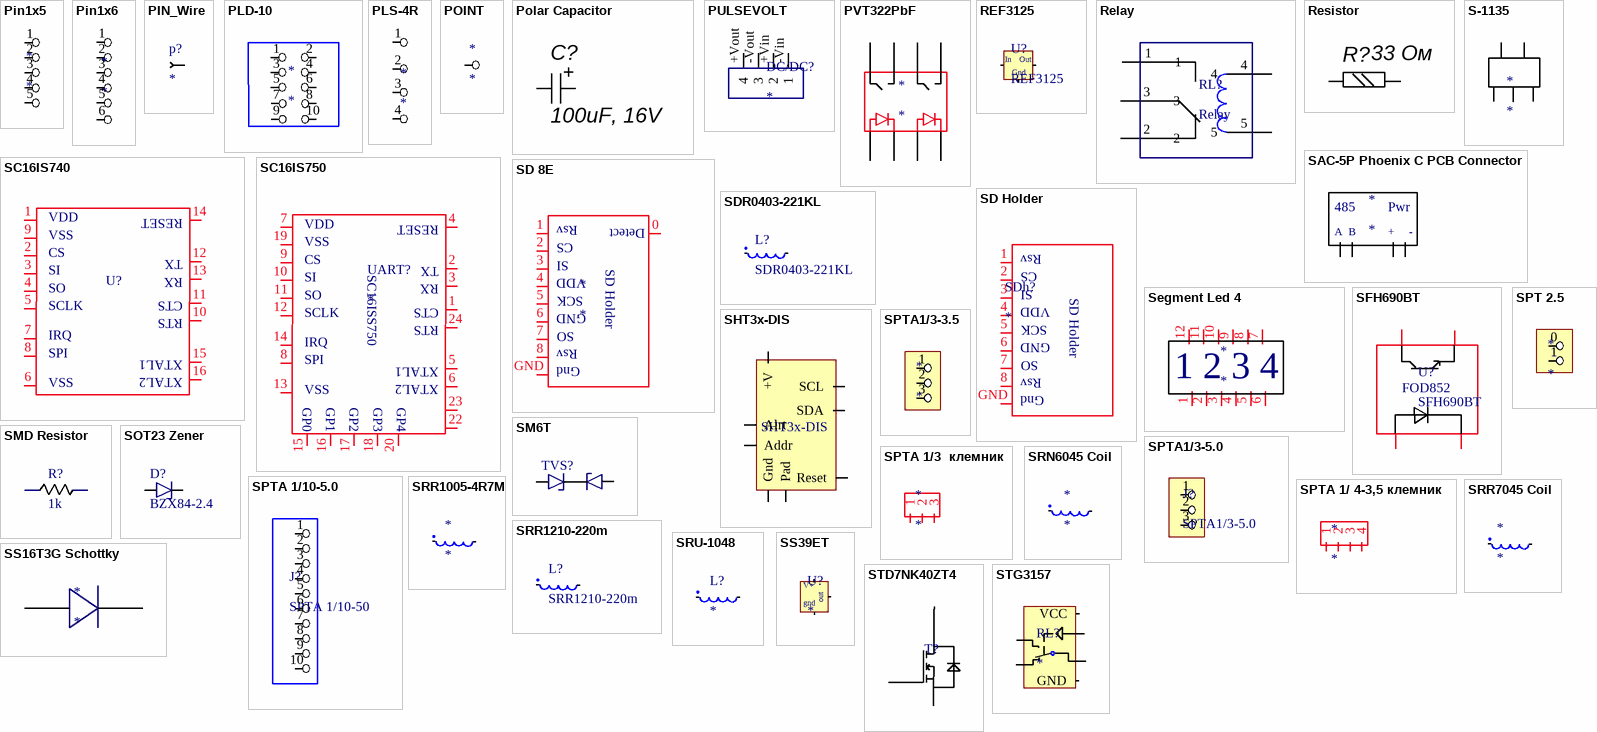
[diagram p5: symbols Pin1x5 to STG3157]

## Pin1x5
designator *
footprint PinPin
pins: 1, 2, 3, 4, 5

## Pin1x6
designator *
footprint Pin_6 1,27
pins: 1, 2, 3, 4, 5, 6

## PIN_Wire
designator p?
pin
footprint PIN_wire
pins: 0

## PLD-10
designator *
footprint PLD-10
pins: 1, 2, 3, 4, 5, 6, 7, 8, 9, 10

## PLS-4R
designator *
footprint PLS 4
pins: 1, 2, 3 1, 4 2

## POINT
designator *
footprint Point
pins: 0

## Polar Capacitor
designator C?, comment 100uF, 16V
100u/6.3V; Manufacturer: KEMET; ManufacturerPartNumber: A700D107M006ATE015; Value: 100 мкФ; Type: Конденсатор танталовый электролитический; Name: CaseD; Power/Voltage: 6,3В; Tolerance: 20%; HelpURL: D:\Elena\Тест-драйв\Datasheets\Kemet_A700.pdf
footprint Case D
pins: 1, 2

## PULSEVOLT
designator DC/DC?
footprint PulseVolt
pins: +Vin 2, +Vout 4, -Vin 1, -Vout 3

## PVT322PbF
designator *
footprint PVT322PbF
pins: 1 18, 2 18, 3 18, 4 18, 5 18, 6 18, 7 18, 8 18

## REF3125
designator U?
footprint REF3125
pins: 1 IN, 2 OUT, 3 GND
text: In; Out; Gnd

## Relay
designator RL?
footprint RELAY
pins: 1, 2, 3, 4, 5

## Resistor
designator R?, comment 33 Ом
33Om/0.125W; Name: 0805; Power/Voltage: 0,125 Вт; Tolerance: 5%; Type: Резистор ЧИП; Value: 33 Ом
footprint Res 1w
pins: 0, 1

## S-1135
designator *
footprint SOT23 - 5 lead
pins: 1, 2 1, 3 1, 4 1, 5 1

## SAC-5P Phoenix C PCB Connector
designator *
footprint Phoenix Connector
pins: Bl 10, Bu 10, R 10, W 10
text: 485; Pwr; A  B; +     -

## SC16IS740
designator U?  (value not drawn)
footprint SC16IS740
pins: 1 4, 2 8, 3 8, 4 8, 5 8, 6 8, 7 8, 8, 9, 10 8, 11 8, 12 8, 13 8, 14 8, 15 8, 16 8
text: RESET; VDD; VSS; TX; CS; RX; SI; SO; CTS; SCLK; RTS; IRQ; XTAL1; SPI; XTAL2

## SC16IS750
designator UART?
footprint SC16IS750   SPI-UART
pins: 1 8, 2 8, 3 8, 4 8, 5 8, 6 8, 7 4, 8, 9 8, 10 8, 11 8, 12 8, 13 8, 14, 15 8, 16 8, 17 8, 18 8, 19 8, 20 8, 22 8, 23 8, 24 8
text: RESET; VDD; VSS; TX; CS; SC16ISS750; RX; SI; SO; CTS; SCLK; RTS; IRQ; XTAL1; SPI; XTAL2; GP0; GP1; GP2; GP3; GP4

## SD 8E
designator *
footprint SD Holder Q-2886
pins: 0 5, 1 5, 2, 3 5, 4 5, 5, 6 5, 7 5, 8 GND, GND
text: Rsv; Detect; CS; SI; VDD; SD Holder; SCK; SO; Gnd

## SD Holder
designator SDh?
footprint SD Card Holder
pins: 1 5, 2, 3 5, 4 5, 5, 6 5, 7 5, 8 GND, GND
text: Rsv; CS; SI; VDD; SCK; SO; Gnd

## SDR0403-221KL
designator L?
footprint SDR0403
pins: 1, 2

## Segment Led 4
designator *
footprint Segment Led 4
pins: 1, 2, 3 5, 4 1, 5 3, 6 5, 7 6, 8 4, 9 6, 10 6, 11 4, 12 6
text: 1 2 3 4

## SFH690BT
designator U?
footprint SOP-4
pins: 1 -, 2 +, 3 Out B, 4 Out A
text: FOD852

## SHT3x-DIS
designator U?
footprint DFN - 8
pins: 0 Pad, 1 SDA, 2 Addr, 3 Alrt, 4 SCL, 5 +V, 6 Reset, 8 Gnd

## SM6T
designator TVS?, comment TVS Diode  (value not drawn)
footprint SM6T
pins: 1, 2

## SMD Resistor
designator R?, comment 1k
pins: 1, 2

## SOT23 Zener
designator D?, comment BZX84-2.4
footprint SOT23
pins: 1, 3 2

## SPT 2.5
designator *
footprint SPT 2,5
pins: 0, 1

## SPTA1/3-3.5
designator *
footprint SPTA1/3-3.5
pins: 1, 2, 3

## SPTA1/3-5.0
designator J?
footprint SPTA1/3-5.0
pins: 1, 2, 3

## SPTA 1/3  клемник
designator *
footprint SPTA 3 pin
pins: 1, 2, 3

## SPTA 1/10-5.0
designator J?, comment SPTA 1/10-50
footprint SPTA 1/10-5.0
pins: 1, 2, 3, 4, 5, 6, 7, 8, 9, 10

## SPTA 1/ 4-3,5 клемник
designator *
footprint SPTA 1/ 4-3,5
pins: 1, 2, 3, 4

## SRN6045 Coil
designator *
footprint SRN6045 Coil
pins: 1, 2

## SRR1005-4R7M
designator *
footprint SRR1005-4R7M
pins: 1, 2

## SRR1210-220m
designator L?
footprint SRR1210-220M
pins: 1, 2

## SRR7045 Coil
designator *
footprint SRR7045
pins: 1, 2

## SRU-1048
designator L?
footprint SRU1048 - duplicate
pins: 1, 2

## SS16T3G Schottky
designator *
footprint SS16T3G (Schottky)
pins: 0, 1

## SS39ET
designator U?
SS39ET
footprint SOT23
pins: 1 OUT, 2 GND, 3 IN
text: V+; out; gnd

## STD7NK40ZT4
designator T?  (value not drawn)
footprint D2Pack
pins: 0 D, 1 G, 2 S

## STG3157
designator RL?
footprint SOT323-6L
pins: 1 S1, 2 GND, 3 S2, 4, 5 VCC, 6

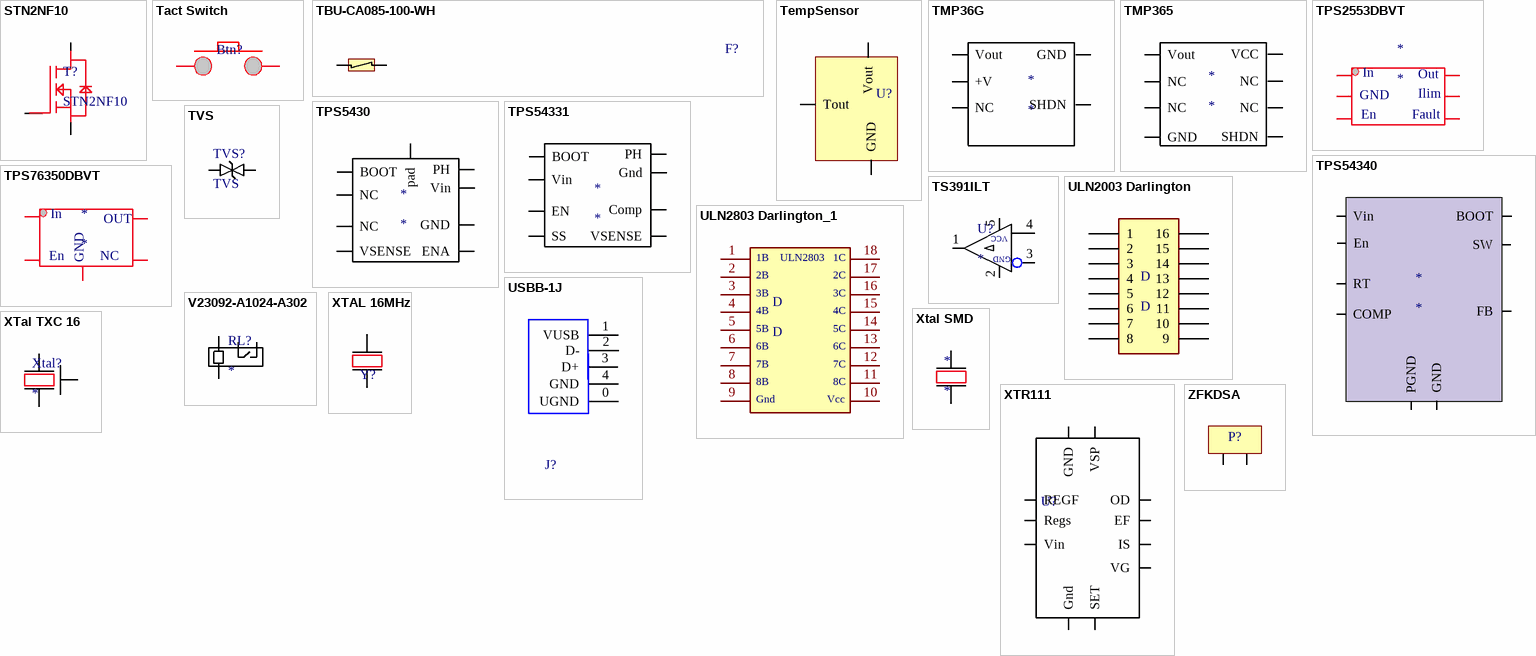
[diagram p6: symbols STN2NF10 to ZFKDSA]

## STN2NF10
designator T?
footprint SOT223
pins: 1, 2, 3

## Tact Switch
designator Btn?  (value not drawn)
KLS7-TS6606-4.3-180
footprint Tact Switch
pins: 0, 1

## TBU-CA085-100-WH
designator F?  (value not drawn)
footprint DFN
pins: 1, 2

## TempSensor
designator U?  (value not drawn)
footprint SOT23
pins: 1 Vout, 2 Tout, 3 GND

## TMP36G
designator *
footprint SOT23 - 5 lead
pins: 1 Vout, 2 +V, 3 NC, 4 GND, 5 SHDN

## TMP365
designator *
footprint TMP36
pins: 1 Vout, 2 NC, 3 NC, 4 GND, 5 SHDN, 6 NC, 7 NC, 8 VCC

## TPS2553DBVT
designator *
footprint TPS2552 USB Current limitter
pins: 1, 2, 3, 4 6, 5, 6 8
text: In; Out; GND; Ilim; En; Fault

## TPS5430
designator *
footprint HSOP
pins: 1 BOOT, 2 NC, 3 NC, 4 VSENSE, 5 ENA, 6 GND, 7 Vin, 8 PH, 9 pad

## TPS54331
designator *
footprint SOIC 8
pins: 1 BOOT, 2 Vin, 3 EN, 4 SS, 5 VSENSE, 6 Comp, 7 Gnd, 8 PH

## TPS54340
designator *
footprint HSOIC
pins: 1 BOOT, 2 Vin, 3 En, 4 RT, 5 FB, 6 COMP, 7 GND, 8 SW, 9 PGND

## TPS76350DBVT
designator *
footprint SOT23 - 5 lead
pins: 1, 2, 3, 4 6, 5
text: In; OUT; GND; En; NC

## TS391ILT
designator U?
footprint SOT23 - 5 lead
pins: 1, 2, 3, 4, 5 7
text: VCC; GND

## TVS
designator TVS?
SMAJ5.0CA
footprint DO-214AC
pins: 1, 2

## ULN2003 Darlington
designator D, comment D
footprint ULN2003_Darlington (Footprint not found)
pins: 1, 2, 3, 4, 5, 6, 7, 8, 9, 10, 11, 12, 13, 14, 15, 16

## ULN2803 Darlington_1
designator D, comment D
footprint ULN2803 Darlington
pins: 1, 2, 3, 4, 5, 6, 7, 8, 9, 10, 11, 12, 13, 14, 15, 16, 17, 18
text: 1B; ULN2803; 1C; 2B; 2C; 3B; 3C; 4B; 4C; 5B; 5C; 6B; 6C; 7B; 7C; 8B; 8C; Gnd; Vcc

## USBB-1J
designator J?  (value not drawn)
footprint USB B
pins: 0 UGND, 1 VUSB, 2 D-, 3 D+, 4 GND

## V23092-A1024-A302
designator RL?
footprint V23092-A1024-A802
pins: 1, 2 1, 3 1, 4 1

## XTAL 16MHz
designator Y?, comment Y?
footprint XTAL 16 MHz
pins: 0 5, 1 5

## Xtal SMD
designator *
footprint Xtal SMD
pins: 1 5, 2

## XTal TXC 16
designator Xtal?
footprint Xtal TXC SMD
pins: 1 5, 3 5, gnd 5

## XTR111
designator U?, comment XTR111AIDRCT  (value not drawn)
footprint QFN-10
pins: 1 VSP, 2 IS, 3 VG, 4 Regs, 5 REGF, 6 Vin, 7 SET, 8 EF, 9 OD, 10 Gnd, 11 GND

## ZFKDSA
designator P?  (value not drawn)
ZFKDSA 1-W-3,81- 2 - 1704498
footprint ZFKDSA
pins: 0 6, 1 7